# Altium schematic symbol library philips_led.SchLib: 1 symbol
Pins are listed as number, name and electrical type; pins without a type are passive.

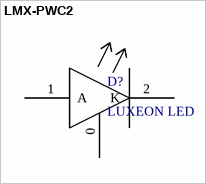
[diagram p0: symbol LMX-PWC2]

## LMX-PWC2
designator D?, comment LUXEON LED
footprint LUXEON
pins: 0 TH, 1 A (power), 2 K (power)